# EAGLE library part HEX-BUS (library ti-cc40)
TI HexBus Connector
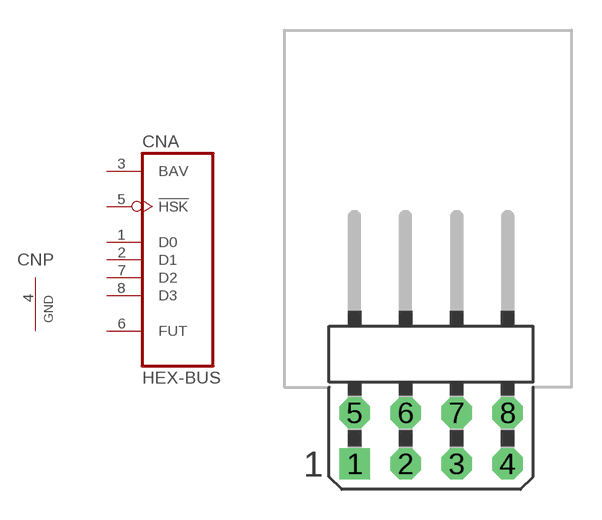
[diagram p1: symbol with the pads of HEX-BUS; footprint HEX-BUS]

Designator prefix CN; gates A=HEX-BUS P=GND

## HEX-BUS (OC_FARNELL: unknown; OC_NEWARK: unknown)  [HEX-BUS]
1  A:D0
2  A:D1
3  A:BAV
4  P:GND  pwr
5  A:!HSK
6  A:FUT  pas
7  A:D2
8  A:D3

## Footprint HEX-BUS (pad centres in mm)
TI CC40 HEX-BUS
drill 1.016 square: 1 -3.81,-1.27
drill 1.016 octagon: 2 -1.27,-1.27; 3 1.27,-1.27; 4 3.81,-1.27; 5 -3.81,1.27; 6 -1.27,1.27; 7 1.27,1.27; 8 3.81,1.27